# EAGLE library part SN74V293 (library sn74v293)
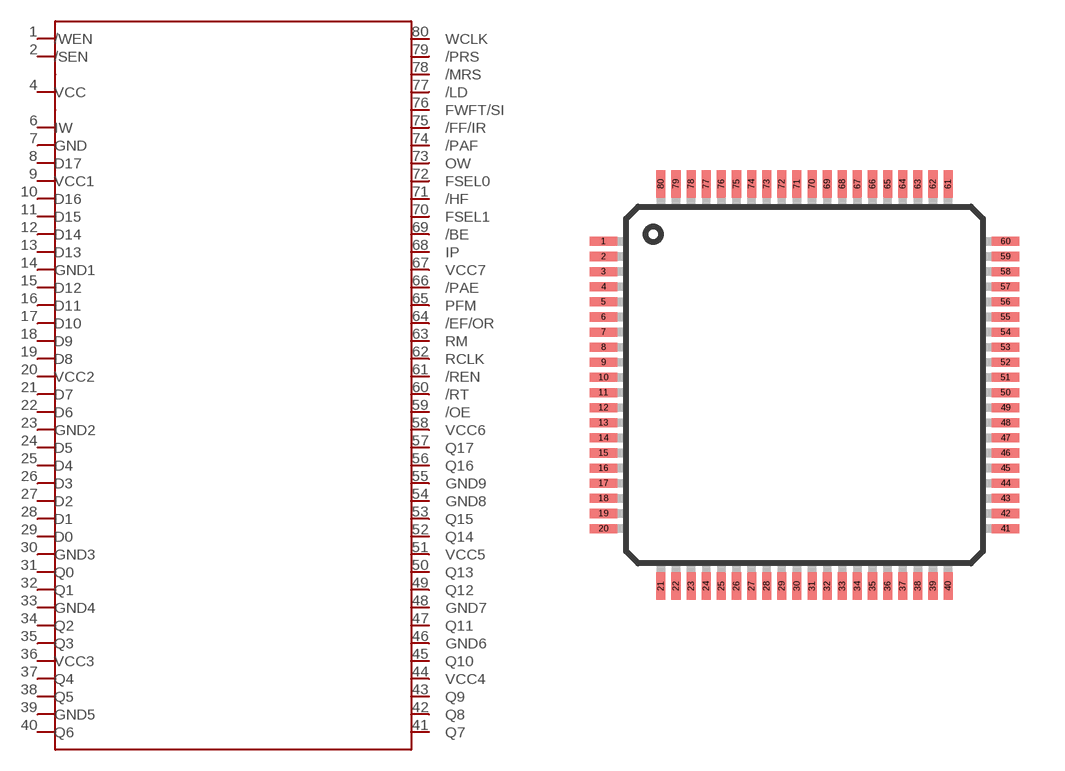
[diagram p0: symbol with the pads of LQFP_ST-80-1; footprint LQFP_ST-80-1]

Designator prefix -

## SN74V293  [LQFP_ST-80-1]
1  /WEN
2  /SEN
4  VCC
6  IW
7  GND
8  D17
9  VCC1
10  D16
11  D15
12  D14
13  D13
14  GND1
15  D12
16  D11
17  D10
18  D9
19  D8
20  VCC2
21  D7
22  D6
23  GND2
24  D5
25  D4
26  D3
27  D2
28  D1
29  D0
30  GND3
31  Q0
32  Q1
33  GND4
34  Q2
35  Q3
36  VCC3
37  Q4
38  Q5
39  GND5
40  Q6
41  Q7
42  Q8
43  Q9
44  VCC4
45  Q10
46  GND6
47  Q11
48  GND7
49  Q12
50  Q13
51  VCC5
52  Q14
53  Q15
54  GND8
55  GND9
56  Q16
57  Q17
58  VCC6
59  /OE
60  /RT
61  /REN
62  RCLK
63  RM
64  /EF/OR
65  PFM
66  /PAE
67  VCC7
68  IP
69  /BE
70  FSEL1
71  /HF
72  FSEL0
73  OW
74  /PAF
75  /FF/IR
76  FWFT/SI
77  /LD
78  /MRS
79  /PRS
80  WCLK

## Footprint LQFP_ST-80-1 (pad centres in mm)
80-Lead Low Profile Quad Flat Package (ST-80-1) COMPLIANT TO JEDEC STANDARDS MS-026-BDD Source: http://www.analog.com/UploadedFiles/Data_Sheets/288945048AD7C7019_20_1_2_4_5_6_7_0.pdf
smd 0.9 x 0.3: 1 -6.65,4.75; 2 -6.65,4.25; 3 -6.65,3.75; 4 -6.65,3.25; 5 -6.65,2.75; 6 -6.65,2.25; 7 -6.65,1.75; 8 -6.65,1.25; 9 -6.65,0.75; 10 -6.65,0.25; 11 -6.65,-0.25; 12 -6.65,-0.75; 13 -6.65,-1.25; 14 -6.65,-1.75; 15 -6.65,-2.25; 16 -6.65,-2.75; 17 -6.65,-3.25; 18 -6.65,-3.75; 19 -6.65,-4.25; 20 -6.65,-4.75; 41 6.65,-4.75; 42 6.65,-4.25; 43 6.65,-3.75; 44 6.65,-3.25; 45 6.65,-2.75; 46 6.65,-2.25; 47 6.65,-1.75; 48 6.65,-1.25; 49 6.65,-0.75; 50 6.65,-0.25; 51 6.65,0.25; 52 6.65,0.75; 53 6.65,1.25; 54 6.65,1.75; 55 6.65,2.25; 56 6.65,2.75; 57 6.65,3.25; 58 6.65,3.75; 59 6.65,4.25; 60 6.65,4.75
smd 0.3 x 0.9: 21 -4.75,-6.65; 22 -4.25,-6.65; 23 -3.75,-6.65; 24 -3.25,-6.65; 25 -2.75,-6.65; 26 -2.25,-6.65; 27 -1.75,-6.65; 28 -1.25,-6.65; 29 -0.75,-6.65; 30 -0.25,-6.65; 31 0.25,-6.65; 32 0.75,-6.65; 33 1.25,-6.65; 34 1.75,-6.65; 35 2.25,-6.65; 36 2.75,-6.65; 37 3.25,-6.65; 38 3.75,-6.65; 39 4.25,-6.65; 40 4.75,-6.65; 61 4.75,6.65; 62 4.25,6.65; 63 3.75,6.65; 64 3.25,6.65; 65 2.75,6.65; 66 2.25,6.65; 67 1.75,6.65; 68 1.25,6.65; 69 0.75,6.65; 70 0.25,6.65; 71 -0.25,6.65; 72 -0.75,6.65; 73 -1.25,6.65; 74 -1.75,6.65; 75 -2.25,6.65; 76 -2.75,6.65; 77 -3.25,6.65; 78 -3.75,6.65; 79 -4.25,6.65; 80 -4.75,6.65